# Altium footprint library RFM95W-915S2.PcbLib: 3 footprints
Each footprint in its own frame and in the unit in brackets; x right, y up, seen from the top. Pads: shape width x height; smd on the part's side, far side on the other; paste and mask are expansions set on the pad; w line width, h text height; cw(c..) or ccw(c..) is an arc to the next point about the centre after c.
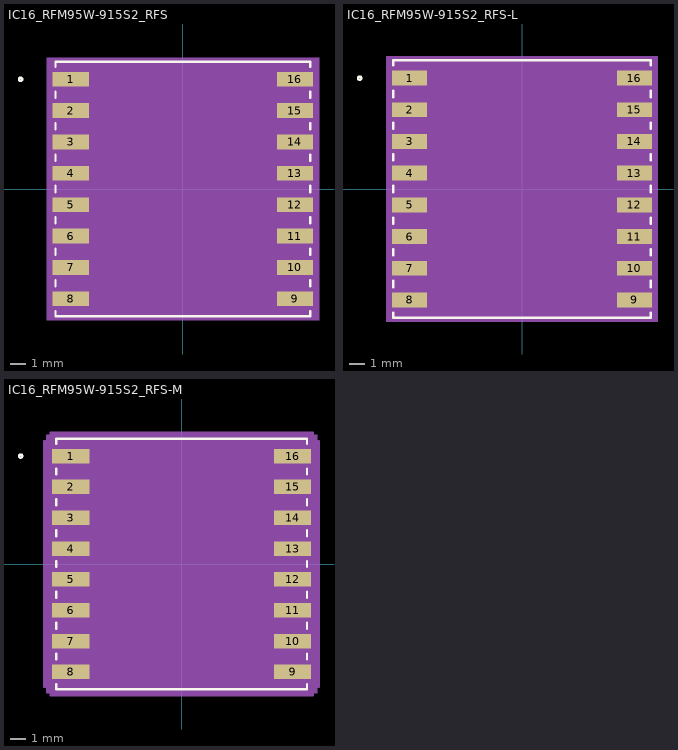
[diagram p0: the footprints below, top view; thin cyan lines are the x and y axes]

## IC16_RFM95W-915S2_RFS [mm]
pads (16):
  rect 2.307x0.941 smd paste+0 mask+0: 1(-7.148,7) 2(-7.148,5) 3(-7.148,3) 4(-7.148,1) 5(-7.148,-1) 6(-7.148,-3) 7(-7.148,-5) 8(-7.148,-7) 9(7.148,-7) 10(7.148,-5) 11(7.148,-3) 12(7.148,-1) 13(7.148,1) 14(7.148,3) 15(7.148,5) 16(7.148,7)
Top Overlay:
  circle w0.152: c-10.352,7 r0.102
  lines w0.152: -8.128,-7.803 -8.128,-8.128 8.128,-8.128 8.128,-7.803 ; -8.128,-6.197 -8.128,-5.803 ; -8.128,-4.197 -8.128,-3.803 ; -8.128,-2.197 -8.128,-1.803 ; -8.128,-0.197 -8.128,0.197 ; -8.128,1.803 -8.128,2.197 ; -8.128,3.803 -8.128,4.197 ; -8.128,5.803 -8.128,6.197 ; -8.128,7.803 -8.128,8.128 8.128,8.128 8.128,7.803 ; 8.128,-6.197 8.128,-5.803 ; 8.128,-4.197 8.128,-3.803 ; 8.128,-2.197 8.128,-1.803 ; 8.128,-0.197 8.128,0.197 ; 8.128,1.803 8.128,2.197 ; 8.128,3.803 8.128,4.197 ; 8.128,5.803 8.128,6.197
Mechanical 5:
  region: 8.682,-8.382 -8.682,-8.382 -8.682,8.382 8.682,8.382
Mechanical 13:
  circle w0: c-5.994,7 r0.076
  lines w0: -0.305,8.001 ccw(c0,8.001) 0.305,8.001
  lines w0.025: -8.001,-8.001 8.001,-8.001 8.001,8.001 -8.001,8.001 -8.001,-8.001
Mechanical 15:
  region: -8.255,-7.724 -8.555,-7.724 -8.555,7.724 -8.255,7.724 -8.255,8.255 8.255,8.255 8.255,7.724 8.555,7.724 8.555,-7.724 8.255,-7.724 8.255,-8.255 -8.255,-8.255
  lines w0.152: -8.555,-7.724 -8.555,7.724 -8.255,7.724 -8.255,8.255 8.255,8.255 8.255,7.724 8.555,7.724 8.555,-7.724 8.255,-7.724 8.255,-8.255 -8.255,-8.255 -8.255,-7.724 -8.555,-7.724
3D body "IC16_RFM95W-915S2_RFS.step": height 1.81, standoff 0, extent -8.001,-8.001 8.001,8.001

## IC16_RFM95W-915S2_RFS-L [mm]
pads (16):
  rect 2.207x0.941 smd paste+0 mask+0: 1(-7.098,7) 2(-7.098,5) 3(-7.098,3) 4(-7.098,1) 5(-7.098,-1) 6(-7.098,-3) 7(-7.098,-5) 8(-7.098,-7) 9(7.098,-7) 10(7.098,-5) 11(7.098,-3) 12(7.098,-1) 13(7.098,1) 14(7.098,3) 15(7.098,5) 16(7.098,7)
Top Overlay:
  circle w0.152: c-10.252,7 r0.102
  lines w0.152: -8.128,-7.803 -8.128,-8.128 8.128,-8.128 8.128,-7.803 ; -8.128,-6.197 -8.128,-5.803 ; -8.128,-4.197 -8.128,-3.803 ; -8.128,-2.197 -8.128,-1.803 ; -8.128,-0.197 -8.128,0.197 ; -8.128,1.803 -8.128,2.197 ; -8.128,3.803 -8.128,4.197 ; -8.128,5.803 -8.128,6.197 ; -8.128,7.803 -8.128,8.128 8.128,8.128 8.128,7.803 ; 8.128,-6.197 8.128,-5.803 ; 8.128,-4.197 8.128,-3.803 ; 8.128,-2.197 8.128,-1.803 ; 8.128,-0.197 8.128,0.197 ; 8.128,1.803 8.128,2.197 ; 8.128,3.803 8.128,4.197 ; 8.128,5.803 8.128,6.197
Mechanical 5:
  region: 8.582,-8.382 -8.582,-8.382 -8.582,8.382 8.582,8.382
Mechanical 13:
  circle w0: c-5.994,7 r0.076
  lines w0: -0.305,8.001 ccw(c0,8.001) 0.305,8.001
  lines w0.025: -8.001,-8.001 -8.001,8.001 8.001,8.001 8.001,-8.001 -8.001,-8.001
Mechanical 15:
  region: -8.103,-7.572 -8.303,-7.572 -8.303,7.572 -8.103,7.572 -8.103,8.103 8.103,8.103 8.103,7.572 8.303,7.572 8.303,-7.572 8.103,-7.572 8.103,-8.103 -8.103,-8.103
  lines w0.152: -8.303,-7.572 -8.103,-7.572 -8.103,-8.103 8.103,-8.103 8.103,-7.572 8.303,-7.572 8.303,7.572 8.103,7.572 8.103,8.103 -8.103,8.103 -8.103,7.572 -8.303,7.572 -8.303,-7.572
3D body "IC16_RFM95W-915S2_RFS.step": height 1.81, standoff 0, extent -8.001,-8.001 8.001,8.001

## IC16_RFM95W-915S2_RFS-M [mm]
pads (16):
  rect 2.407x0.941 smd paste+0 mask+0: 1(-7.198,7) 2(-7.198,5) 3(-7.198,3) 4(-7.198,1) 5(-7.198,-1) 6(-7.198,-3) 7(-7.198,-5) 8(-7.198,-7) 9(7.198,-7) 10(7.198,-5) 11(7.198,-3) 12(7.198,-1) 13(7.198,1) 14(7.198,3) 15(7.198,5) 16(7.198,7)
Top Overlay:
  circle w0.152: c-10.452,7 r0.102
  lines w0.152: -8.128,-7.803 -8.128,-8.128 8.128,-8.128 8.128,-7.803 ; -8.128,-6.197 -8.128,-5.803 ; -8.128,-4.197 -8.128,-3.803 ; -8.128,-2.197 -8.128,-1.803 ; -8.128,-0.197 -8.128,0.197 ; -8.128,1.803 -8.128,2.197 ; -8.128,3.803 -8.128,4.197 ; -8.128,5.803 -8.128,6.197 ; -8.128,7.803 -8.128,8.128 8.128,8.128 8.128,7.803 ; 8.128,-6.197 8.128,-5.803 ; 8.128,-4.197 8.128,-3.803 ; 8.128,-2.197 8.128,-1.803 ; 8.128,-0.197 8.128,0.197 ; 8.128,1.803 8.128,2.197 ; 8.128,3.803 8.128,4.197 ; 8.128,5.803 8.128,6.197
Mechanical 5:
  region: 8.782,-8.382 -8.782,-8.382 -8.782,8.382 8.782,8.382
Mechanical 13:
  circle w0: c-5.994,7 r0.076
  lines w0: -0.305,8.001 ccw(c0,8.001) 0.305,8.001
  lines w0.025: -8.001,-8.001 8.001,-8.001 8.001,8.001 -8.001,8.001 -8.001,-8.001
Mechanical 15:
  region: -8.509,-7.978 -8.909,-7.978 -8.909,7.978 -8.509,7.978 -8.509,8.509 8.509,8.509 8.509,7.978 8.909,7.978 8.909,-7.978 8.509,-7.978 8.509,-8.509 -8.509,-8.509
  lines w0.152: -8.909,-7.978 -8.909,7.978 -8.509,7.978 -8.509,8.509 8.509,8.509 8.509,7.978 8.909,7.978 8.909,-7.978 8.509,-7.978 8.509,-8.509 -8.509,-8.509 -8.509,-7.978 -8.909,-7.978
3D body "IC16_RFM95W-915S2_RFS.step": height 1.81, standoff 0, extent -8.001,-8.001 8.001,8.001